# Altium integrated library SMBJ12CA.IntLib: 2 symbols
Pins are listed as number, name and electrical type; pins without a type are passive.

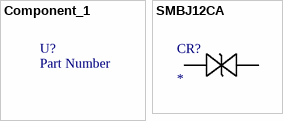
[diagram p0: symbols Component_1 to SMBJ12CA]

## Component_1
designator U?, comment Part Number
XXX - Description - Package; GRAMS Lib Spec: 2.7

## SMBJ12CA
designator CR?
No Description Available; Mfr_Name: Littelfuse Inc
footprint SMBJSeries_LTF
pins: 1, 2